# Altium schematic symbol library 三院科协AD封装库.SchLib: 95 symbols
Pins are listed as number, name and electrical type; pins without a type are passive.

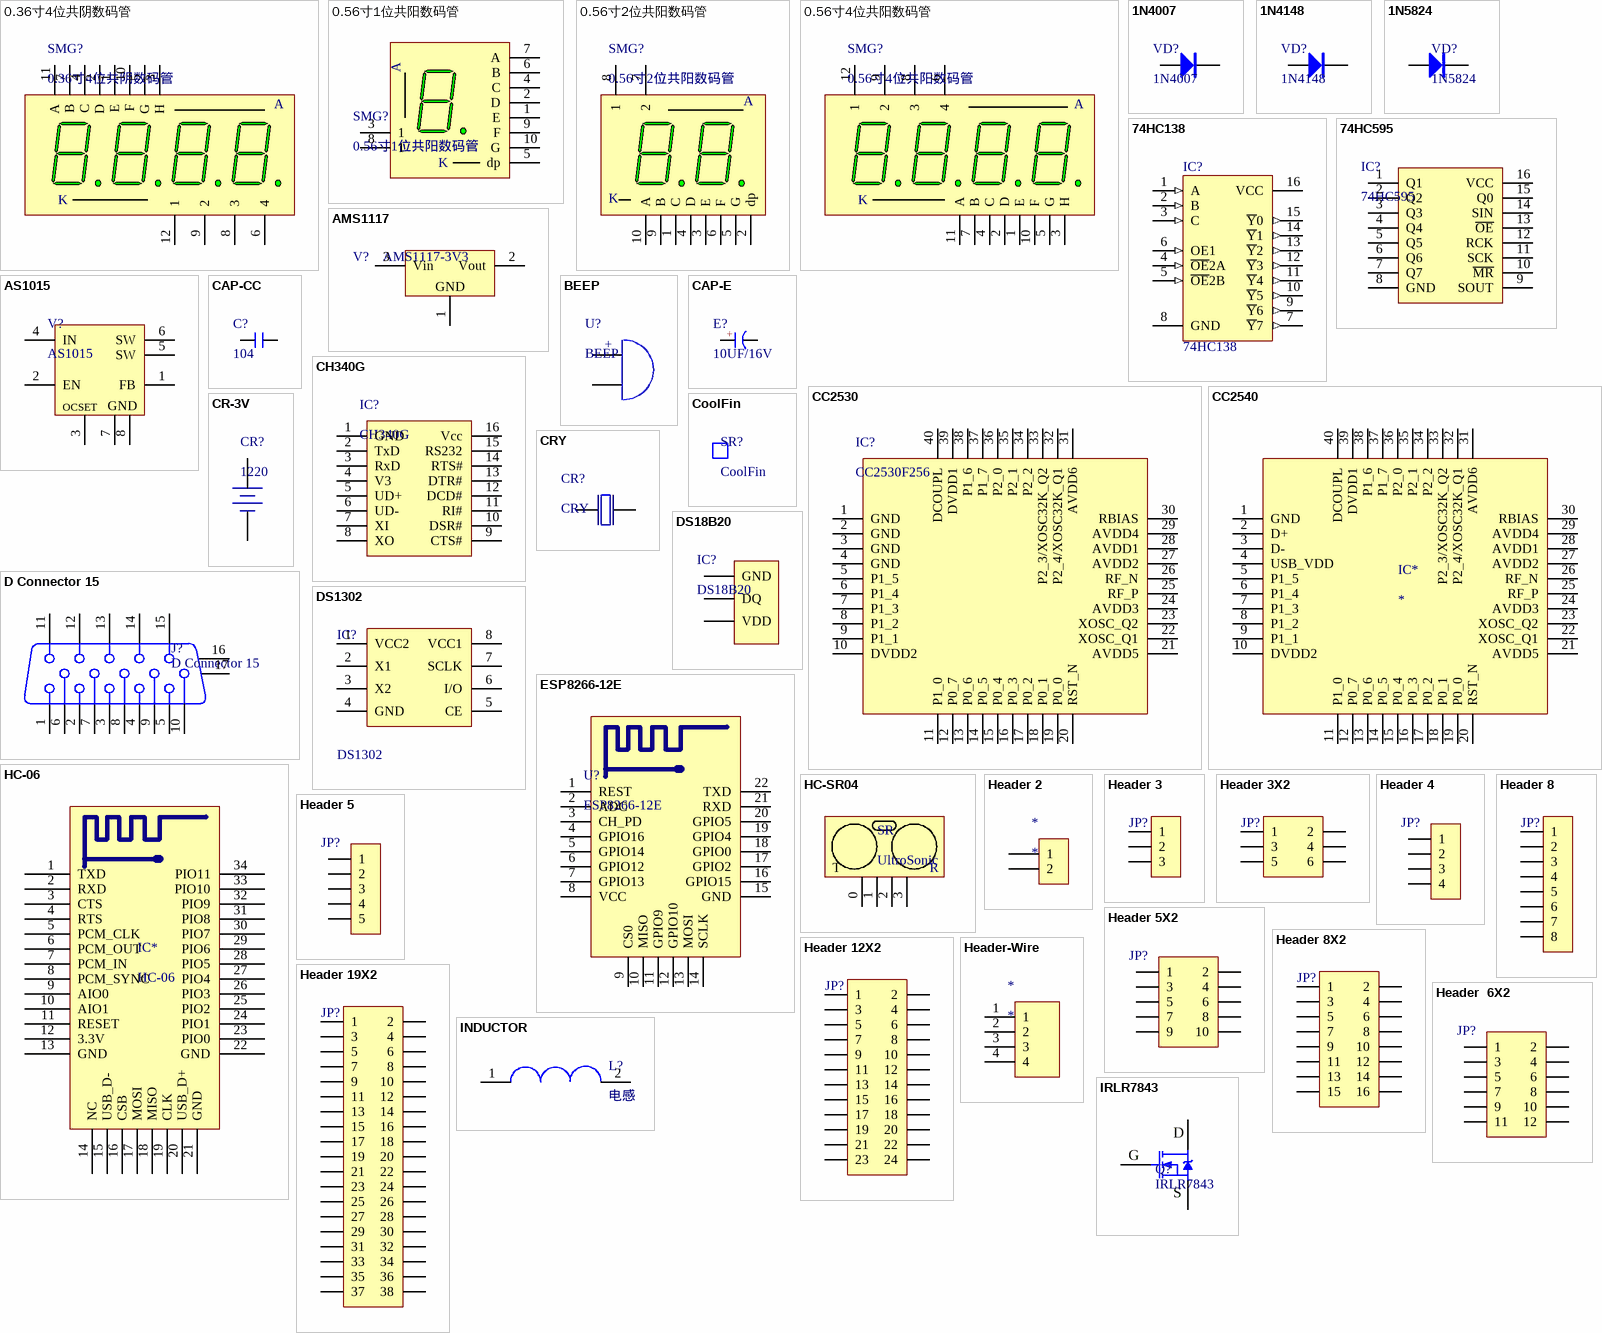
[diagram p0: symbols 0.36寸4位共阴数码管 to IRLR7843]

## 0.36寸4位共阴数码管
designator SMG?
3641A; 版权归属: 源创客; BOM名称: 0.36寸4位共阴; 学习资源: www.ooocke.com
footprint SMG 0.36-4P (30*14*7.2mm(长宽厚))
pins: 1 E "Anode", 2 D "Anode", 3 H "Anode", 4 C "Anode", 5 G "Anode", 6 4 "Cathode", 7 B "Anode", 8 3 "Anode", 9 2 "Anode", 10 F "Anode", 11 A "Anode", 12 1 "Cathode"
text: K

## 0.56寸1位共阳数码管
designator SMG?
5611B; 版权归属: 源创客; BOM名称: 0.56寸1位共阳; 学习资源: www.ooocke.com
footprint SMG 0.56-1P (12.7*19*8mm(长宽厚))
pins: 1 E "Anode", 2 D "Anode", 3 1 "Cathode", 4 C "Anode", 5 dp "Anode", 6 B "Anode", 7 A "Anode", 8 1 "Anode", 9 F "Anode", 10 G "Anode"
text: K

## 0.56寸2位共阳数码管
designator SMG?
5621B; 版权归属: 源创客; BOM名称: 0.56寸2位共阳; 学习资源: www.ooocke.com
footprint SMG 0.56-2P (25*19*8mm(长宽厚))
pins: 1 C "Anode", 2 dp "Anode", 3 E "Anode", 4 D "Anode", 5 G "Anode", 6 F "Anode", 7 2 "Anode", 8 1 "Cathode", 9 B "Anode", 10 A "Anode"
text: K

## 0.56寸4位共阳数码管
designator SMG?
5641B; 版权归属: 源创客; BOM名称: 0.56寸4位共阳; 学习资源: www.ooocke.com
footprint SMG 0.56-4P (4位0.56寸数码管，50.3*19mm)
pins: 1 E "Anode", 2 D "Anode", 3 H "Anode", 4 C "Anode", 5 G "Anode", 6 4 "Cathode", 7 B "Anode", 8 3 "Anode", 9 2 "Anode", 10 F "Anode", 11 A "Anode", 12 1 "Cathode"
text: K

## 1N4007
designator VD?
整流二极管; 版权归属: 源创客; BOM名称: 整流二极管; 学习资源: www.ooocke.com
footprint DO-41 (2.6*9.1mm(直径，脚距）)
pins: 1 A, 2 K

## 1N4148
designator VD?
高速开关二极管; 版权归属: 源创客; BOM名称: 高速开关二极管; 学习资源: www.ooocke.com
footprint DO-35 (1.8*6.8mm(直径，脚距）)
pins: 1 A, 2 K

## 1N5824
designator VD?
SS54 肖特基整流二极管
footprint SMA (4.5x2.6*2.2mm（长宽高，不包括引脚）)
pins: 1 A, 2 K

## 74HC138
designator IC?
138译码器; 版权归属: 源创客; 学习资源: www.ooocke.com; BOM名称: 138译码器
footprint DIP16-300 (19.3*7.6*3.8(长宽高）)
pins: 1 A (in), 2 B (in), 3 C (in), 4 ~{OE}2A (in), 5 ~{OE}2B (in), 6 OE1 (in), 7 ~{Y}7 (out), 8 GND (power), 9 ~{Y}6 (out), 10 ~{Y}5 (out), 11 ~{Y}4 (out), 12 ~{Y}3 (out), 13 ~{Y}2 (out), 14 ~{Y}1 (out), 15 ~{Y}0 (out), 16 VCC (power)

## 74HC595
designator IC?
8位移位寄存器; 版权归属: 源创客; BOM名称: 8位移位寄存器; 学习资源: www.ooocke.com
footprint DIP16-300 (19.3*7.6*3.8(长宽高）)
pins: 1 Q1, 2 Q2, 3 Q3, 4 Q4, 5 Q5, 6 Q6, 7 Q7, 8 GND, 9 SOUT, 10 ~{MR}, 11 SCK, 12 RCK, 13 ~{OE}, 14 SIN, 15 Q0, 16 VCC

## AMS1117
designator V?, comment AMS1117-3V3
三端稳压芯片; BOM名称: 稳压芯片; 版权归属: 源创客; 学习资源: www.ooocke.com
footprint SOT223_N (6.4x7x1.6mm(长宽高))
pins: 1 GND, 2 Vout, 3 Vin

## AS1015
designator V?
可调升压芯片; 版权归属: 源创客; BOM名称: 可调升压芯片; 学习资源: www.ooocke.com
footprint SOP8_N (5*6*1.8mm（长宽高）)
pins: 1 FB (power), 2 EN (power), 3 OCSET (power), 4 IN (power), 5 SW (power), 6 SW (power), 7 GND (power), 8 GND (power)

## BEEP
designator U?
蜂鸣器
footprint BEEP 7.6x12x9.5 (6.5*12*9.5mm(脚距,直径,高度))
pins: 1, 2
text: +

## CAP-CC
designator C?, comment 104
瓷片电容; BOM名称: 直插瓷片电容; 版权归属: 源创客; 学习资源: www.ooocke.com
footprint C 0805 (无极性贴片电容)
footprint CC 2.2*5 (脚距2.2mm直径5mm)
pins: 1, 2

## CAP-E
designator E?, comment 10UF/16V
电解电容; BOM名称: 直插电解电容; 版权归属: 源创客; 学习资源: www.ooocke.com
footprint CAP 3.5*8*11.5 - BK (脚距3.5mm直径8mm高度11.5mm)
pins: 1 A, 2 K
text: +

## CC2530
designator IC?, comment CC2530F256
ZigBee2.4G无线组网芯片; 版权归属: 源创客; BOM名称: ZigBee2.4G无线组网芯片; 学习资源: www.ooocke.com
footprint QFN40 6X6_L (40脚，体宽：6x6mm，脚距：0.5mm)
pins: 1 GND, 2 GND, 3 GND, 4 GND, 5 P1_5, 6 P1_4, 7 P1_3, 8 P1_2, 9 P1_1, 10 DVDD2, 11 P1_0, 12 P0_7, 13 P0_6, 14 P0_5, 15 P0_4, 16 P0_3, 17 P0_2, 18 P0_1, 19 P0_0, 20 RST_N, 21 AVDD5, 22 XOSC_Q1, 23 XOSC_Q2, 24 AVDD3, 25 RF_P, 26 RF_N, 27 AVDD2, 28 AVDD1, 29 AVDD4, 30 RBIAS, 31 AVDD6, 32 P2_4/XOSC32K_Q1, 33 P2_3/XOSC32K_Q2, 34 P2_2, 35 P2_1, 36 P2_0, 37 P1_7, 38 P1_6, 39 DVDD1, 40 DCOUPL

## CC2540
designator IC*
ZigBee2.4G无线组网芯片
footprint QFN40 6X6_L (40脚，体宽：6x6mm，脚距：0.5mm)
pins: 1 GND, 2 D+, 3 D-, 4 USB_VDD, 5 P1_5, 6 P1_4, 7 P1_3, 8 P1_2, 9 P1_1, 10 DVDD2, 11 P1_0, 12 P0_7, 13 P0_6, 14 P0_5, 15 P0_4, 16 P0_3, 17 P0_2, 18 P0_1, 19 P0_0, 20 RST_N, 21 AVDD5, 22 XOSC_Q1, 23 XOSC_Q2, 24 AVDD3, 25 RF_P, 26 RF_N, 27 AVDD2, 28 AVDD1, 29 AVDD4, 30 RBIAS, 31 AVDD6, 32 P2_4/XOSC32K_Q1, 33 P2_3/XOSC32K_Q2, 34 P2_2, 35 P2_1, 36 P2_0, 37 P1_7, 38 P1_6, 39 DVDD1, 40 DCOUPL

## CH340G
designator IC?
串口转USB; 版权归属: 源创客; BOM名称: 串口转USB; 学习资源: www.ooocke.com
footprint SOP16_N (10.3*6.2*1.8mm（长宽高）)
pins: 1 GND, 2 TxD, 3 RxD, 4 V3, 5 UD+, 6 UD-, 7 XI, 8 XO, 9 CTS#, 10 DSR#, 11 RI#, 12 DCD#, 13 DTR#, 14 RTS#, 15 RS232, 16 Vcc

## CoolFin
designator SR?
散热片; 版权归属: 源创客; BOM名称: 散热片; 学习资源: www.ooocke.com
footprint HD-2

## CR-3V
designator CR?, comment 1220
纽扣电池; BOM名称: 微型电池; 版权归属: 源创客; 学习资源: www.ooocke.com
footprint CR1220_B (纽扣电池座)
pins: DC+, DC-

## CRY
designator CR?
晶振
footprint XTAL-49S DIP
footprint XTAL-49S SMD
pins: 1, 2

## D Connector 15
designator J?
VGA通讯端口; 版权归属: 源创客; 学习资源: www.ooocke.com; BOM名称: VGA通讯端口
footprint VGA15B (15针通讯接口)
footprint VGA15A (15针通讯接口)
pins: 1, 2, 3, 4, 5, 6, 7, 8, 9, 10, 11, 12, 13, 14, 15, 16 MH2, 17 MH1

## DS18B20
designator IC?
数字温度计; 版权归属: 源创客; BOM名称: 数字温度计; 学习资源: www.ooocke.com
footprint TO92A (92晶体管)
pins: 1 GND, 2 DQ, 3 VDD

## DS1302
designator IC?
实时时钟芯片; 版权归属: 源创客; BOM名称: 实时时钟芯片; 学习资源: www.ooocke.com
footprint SOP8_N (5*6*1.8mm（长宽高）)
pins: 1 VCC2, 2 X1, 3 X2, 4 GND, 5 CE, 6 I/O, 7 SCLK, 8 VCC1

## ESP8266-12E
designator U?
串口 WIFI模块，ESP-12E; BOM名称: WIFI模块; 版权归属: 源创客; 学习资源: www.ooocke.com
footprint ESP_12E (ESP-12 Wi-Fi Module by AI-Thinker)
pins: 1 REST, 2 ADC, 3 CH_PD, 4 GPIO16, 5 GPIO14, 6 GPIO12, 7 GPIO13, 8 VCC, 9 CS0, 10 MISO, 11 GPIO9, 12 GPIO10, 13 MOSI, 14 SCLK, 15 GND, 16 GPIO15, 17 GPIO2, 18 GPIO0, 19 GPIO4, 20 GPIO5, 21 RXD, 22 TXD

## HC-06
designator IC*
蓝牙模块2.0
footprint HC-06 (无线蓝牙模块2.0)
pins: 1 TXD, 2 RXD, 3 CTS, 4 RTS, 5 PCM_CLK, 6 PCM_OUT, 7 PCM_IN, 8 PCM_SYNC, 9 AIO0, 10 AIO1, 11 RESET, 12 3.3V, 13 GND, 14 NC, 15 USB_D-, 16 CSB, 17 MOSI, 18 MISO, 19 CLK, 20 USB_D+, 21 GND, 22 GND, 23 PIO0, 24 PIO1, 25 PIO2, 26 PIO3, 27 PIO4, 28 PIO5, 29 PIO6, 30 PIO7, 31 PIO8, 32 PIO9, 33 PIO10, 34 PIO11

## HC-SR04
designator SR, comment UltroSonic
超声波测距模块
footprint HC-SR04 (超声波测距模块)
pins: 0 VCC, 1 Trig, 2 Echo, 3 GND
text: T; R

## Header 2
designator *
2P接插件
footprint HDR-1x2 (排针，2脚)
footprint HDR-1X2_M (排母，2脚)
pins: 1, 2

## Header 3
designator JP?, comment HDR-1X3  (value not drawn)
3P接插件; 版权归属: 源创客; BOM名称: 3P接插件; 学习资源: www.ooocke.com
footprint HDR-1X3 (排针，3脚)
footprint HDR-1X3_M (排母，3脚)
footprint HDR-1X3_Y (圆孔排母，3脚)
pins: 1, 2, 3

## Header 3X2
designator JP?, comment Header3X2  (value not drawn)
3*2P接插件; 版权归属: 源创客; BOM名称: 3*2P接插件; 学习资源: www.ooocke.com
footprint HDR-3X2 (双排排针，3x2脚)
pins: 1, 2, 3, 4, 5, 6

## Header 4
designator JP?, comment HDR-1X4  (value not drawn)
4P接插件; 版权归属: 源创客; BOM名称: 4P接插件; 学习资源: www.ooocke.com
footprint HDR-1X4_M (排母，4脚)
pins: 1, 2, 3, 4

## Header 5
designator JP?, comment HDR-1X5  (value not drawn)
5P接插件; 版权归属: 源创客; BOM名称: 5P接插件; 学习资源: www.ooocke.com
footprint HDR-1X5 (排针，5脚)
footprint HDR-1X5 - duplicate (排针，5脚)
footprint HDR-1X5_M (排母，5脚)
pins: 1, 2, 3, 4, 5

## Header 5X2
designator JP?  (value not drawn)
5*2P接插件; 版权归属: 源创客; BOM名称: 5*2P接插件; 学习资源: www.ooocke.com
footprint HDR-5X2 (双排排针，5x2脚)
pins: 1, 2, 3, 4, 5, 6, 7, 8, 9, 10

## Header 8
designator JP?, comment HDR-1X8  (value not drawn)
8P接插件; 版权归属: 源创客; BOM名称: 8P接插件; 学习资源: www.ooocke.com
footprint HDR-1X8 (排针，8脚)
footprint HDR-1X8_M (排母，8脚)
footprint HDR-1X8_Y (圆孔排母，8脚)
pins: 1, 2, 3, 4, 5, 6, 7, 8

## Header 8X2
designator JP?  (value not drawn)
8*2P接插件; 版权归属: 源创客; BOM名称: 8*2P接插件; 学习资源: www.ooocke.com
footprint HDR-8X2 (双排排针，8x2脚)
pins: 1, 2, 3, 4, 5, 6, 7, 8, 9, 10, 11, 12, 13, 14, 15, 16

## Header 12X2
designator JP?, comment Header 2X11  (value not drawn)
12*2P接插件; 版权归属: 源创客; BOM名称: 12*2P接插件; 学习资源: www.ooocke.com
footprint HDR-12X2 (双排排针，12x2脚)
pins: 1, 2, 3, 4, 5, 6, 7, 8, 9, 10, 11, 12, 13, 14, 15, 16, 17, 18, 19, 20, 21, 22, 23, 24

## Header 19X2
designator JP?, comment Header 2X11  (value not drawn)
19*2P接插件; 版权归属: 源创客; BOM名称: 19*2P接插件; 学习资源: www.ooocke.com
footprint HDR-19X2 (双排排针，19x2脚)
pins: 1, 2, 3, 4, 5, 6, 7, 8, 9, 10, 11, 12, 13, 14, 15, 16, 17, 18, 19, 20, 21, 22, 23, 24, 25, 26, 27, 28, 29, 30, 31, 32, 33, 34, 35, 36, 37, 38

## Header  6X2
designator JP?, comment Header 6X2  (value not drawn)
6*2P接插件; 版权归属: 源创客; BOM名称: 6*2P接插件; 学习资源: www.ooocke.com
footprint HDR-6X2 (双排排针，6x2脚)
pins: 1, 2, 3, 4, 5, 6, 7, 8, 9, 10, 11, 12

## Header-Wire
designator *
排线接口*4
footprint PH2.0-4P (接插件/1A)
pins: 1, 2, 3, 4

## INDUCTOR
designator L?, comment 电感
footprint CDRH73 (7.3*7.3*3.4mm（长宽高）)
pins: 1, 2

## IRLR7843
designator Q?
N沟场效应管; 版权归属: 源创客; BOM名称: N沟场效应管; 学习资源: www.ooocke.com
footprint TO252 (252晶体管)
pins: 1 G, 2 D, 3 S

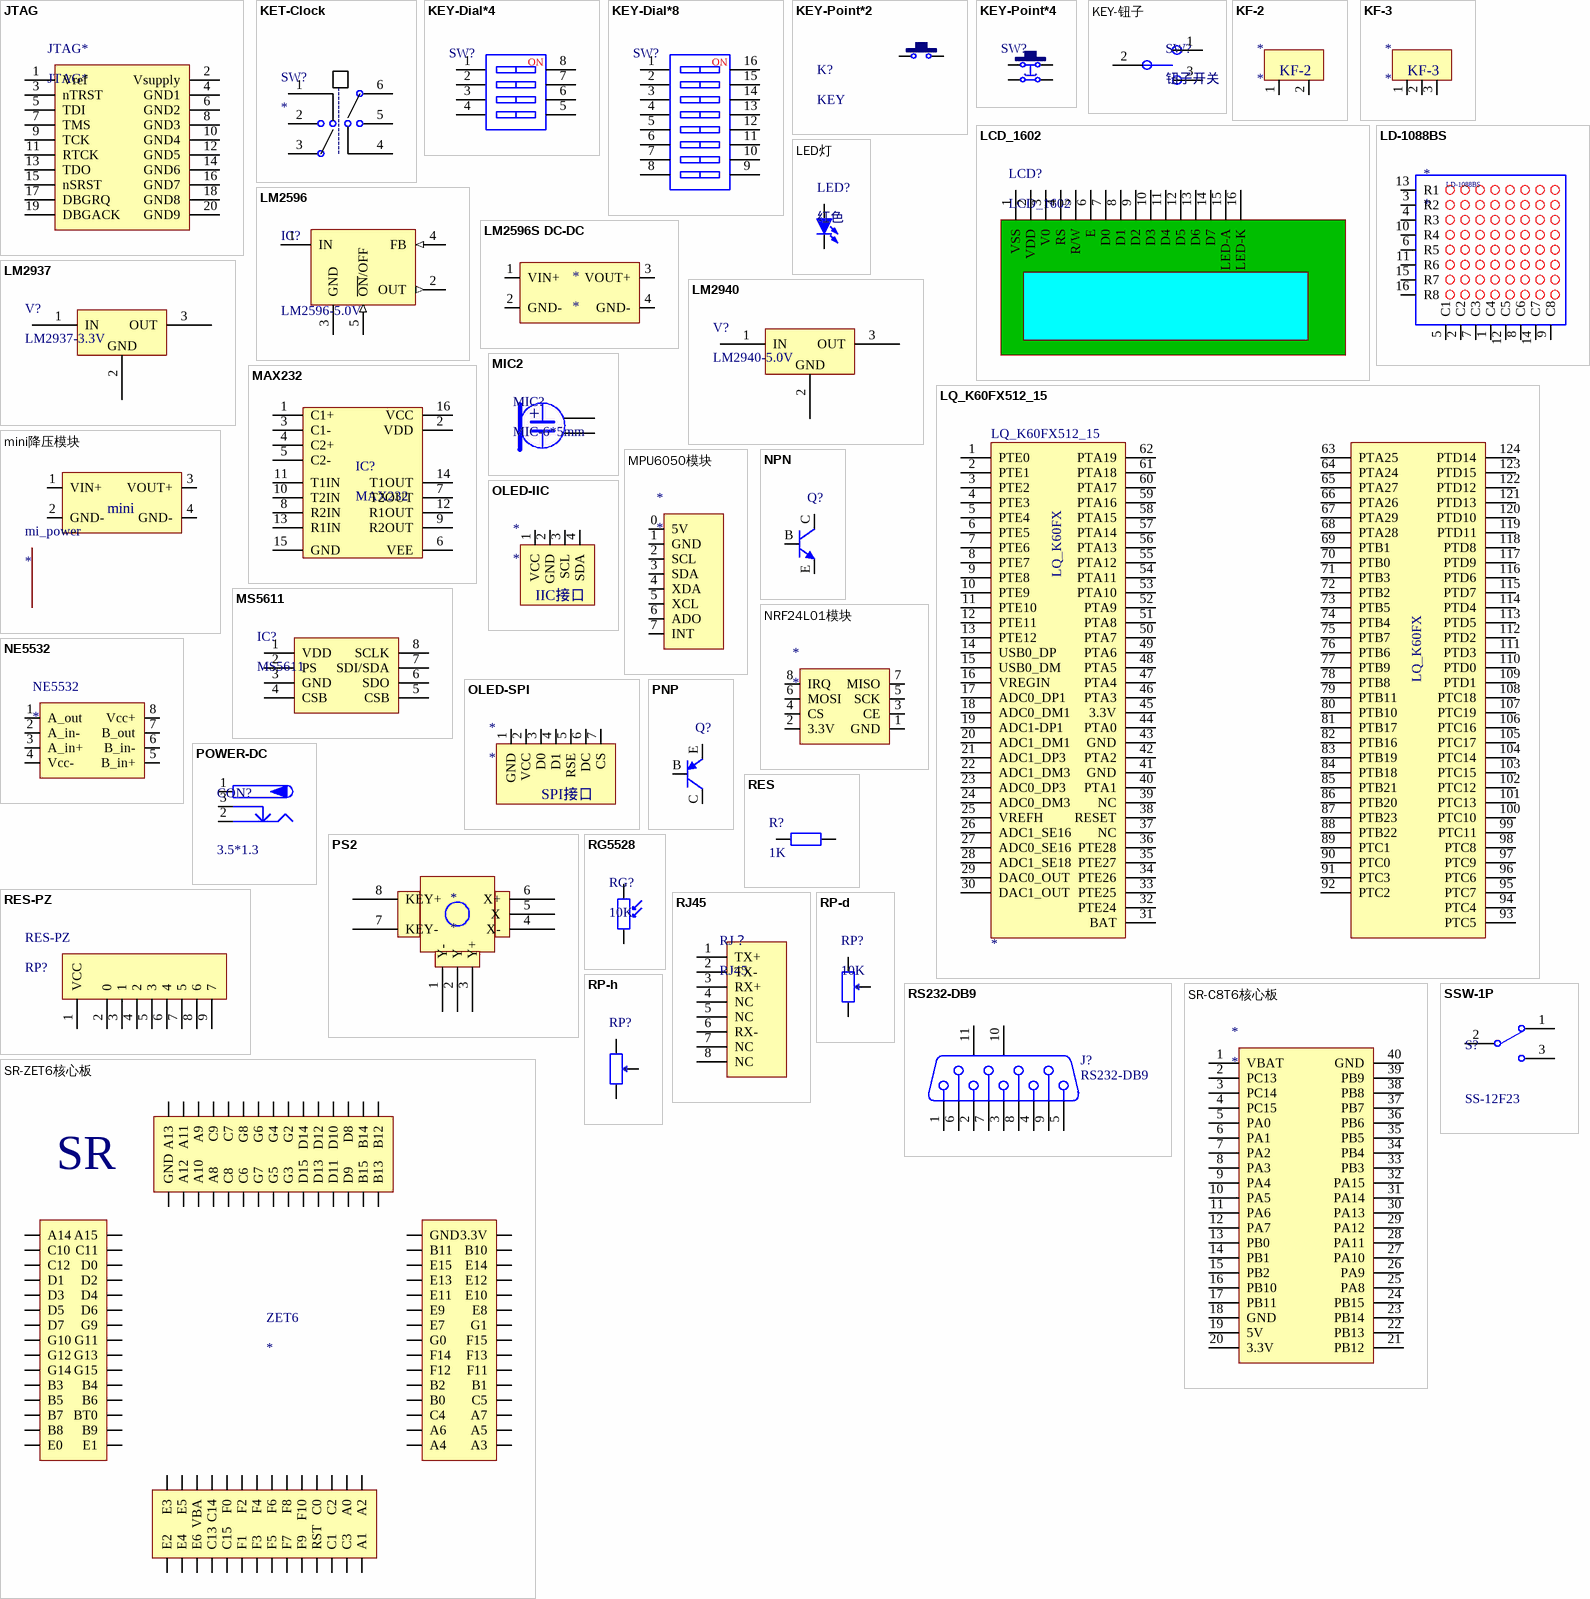
[diagram p1: symbols JTAG to SSW-1P]

## JTAG
designator JTAG*, comment JTAG*
J-LINK接口
footprint IDC2.54-20P (20P简易牛角座)
pins: 1 Vref, 2 Vsupply, 3 nTRST, 4 GND1, 5 TDI, 6 GND2, 7 TMS, 8 GND3, 9 TCK, 10 GND4, 11 RTCK, 12 GND5, 13 TDO, 14 GND6, 15 nSRST, 16 GND7, 17 DBGRQ, 18 GND8, 19 DBGACK, 20 GND9

## KET-Clock
designator SW?
自锁开关; BOM名称: 8*8开关; 版权归属: 源创客; 学习资源: www.ooocke.com
footprint KFT DIP-8X8 (8*8mm开关)
pins: 1, 2, 3, 4, 5, 6
text: ---------------

## KEY-Dial*4
designator SW?  (value not drawn)
4位拨码开关; BOM名称: 4路编码开关; 版权归属: 源创客; 学习资源: www.ooocke.com
footprint CSW DIP-4P (11.7*9.9*7mm)
pins: 1, 2, 3, 4, 5, 6, 7, 8
text: NO

## KEY-Dial*8
designator SW?  (value not drawn)
8位拨码开关; BOM名称: 8路编码开关; 版权归属: 源创客; 学习资源: www.ooocke.com
footprint CSW DIP-8P (21.9*9.9*7mm)
pins: 1, 2, 3, 4, 5, 6, 7, 8, 9, 10, 11, 12, 13, 14, 15, 16
text: NO

## KEY-Point*2
designator K?, comment KEY
2脚按键
footprint TSW SMD-3*6*2.5 (3*6*2.5mm)
footprint TSW SMD-3*6*5 (3*6*5mm)
pins: 1, 2

## KEY-Point*4
designator SW?, comment 6x6x5  (value not drawn)
4脚按键; BOM名称: 直插6x6轻触开关; 版权归属: 源创客; 学习资源: www.ooocke.com
footprint TSW DIP-6*6*5 (6*6*5mm)
pins: 1, 2, 3, 4

## KEY-钮子
designator SW?, comment 钮子开关
footprint SS-SW
pins: 1, 2, 3

## KF-2
designator *
2脚端子
footprint KF301-2P (可拼接端子/6A)
pins: 1, 2

## KF-3
designator *
3脚端子
footprint KF301-3P (可拼接端子/6A)
pins: 1, 2, 3

## LCD_1602
designator LCD?
LCD_1602显示模块; 版权归属: 源创客; BOM名称: LCD 1602; 学习资源: www.ooocke.com
footprint LCD-1602 (LCD module 16*2 char)
pins: 1 VSS, 2 VDD, 3 V0, 4 RS, 5 R/W, 6 E, 7 D0, 8 D1, 9 D2, 10 D3, 11 D4, 12 D5, 13 D6, 14 D7, 15 LED-A, 16 LED-K

## LD-1088BS
designator *
8*8点阵
footprint LED RG-8*8A (双色8*8点阵,32*32mm)
pins: 1 C4, 2 C2, 3 R2, 4 R3, 5 C1, 6 R5, 7 C3, 8 C6, 9 C8, 10 R4, 11 R6, 12 C5, 13 R1, 14 C7, 15 R7, 16 R8

## LED灯
designator LED?, comment 红色
插件LED; 版权归属: 源创客; BOM名称: 插件LED; 学习资源: www.ooocke.com
footprint LED-3mm
footprint LED-5mm
footprint 0805LED1
pins: 1 A, 2 K

## LM2596
designator IC?, comment LM2596-5.0V
DC降压芯片; BOM名称: DC稳压芯片; 版权归属: 源创客; 学习资源: www.ooocke.com
footprint TO220-5A (220，5脚晶体管)
footprint TO220-5B (220，5脚晶体管)
footprint TO220-5C (220，5脚晶体管)
pins: 1 IN (power), 2 OUT (out), 3 GND (power), 4 FB (in), 5 ~{ON}/OFF (in)

## LM2596S DC-DC
designator *
可调降压模块
footprint DC-DOWN-2
pins: 1 VIN+, 2 GND-, 3 VOUT+, 4 GND-

## LM2937
designator V?, comment LM2937-3.3V
3.3V稳压芯片; BOM名称: 5V稳压芯片; 版权归属: 源创客; 学习资源: www.ooocke.com
footprint TO263-3A (263，3脚晶体管)
pins: 1 IN (power), 2 GND (power), 3 OUT (power)

## LM2940
designator V?, comment LM2940-5.0V
5V稳压芯片; 版权归属: 源创客; BOM名称: 5V稳压芯片; 学习资源: www.ooocke.com
footprint TO263-3A (263，3脚晶体管)
pins: 1 IN (power), 2 GND (power), 3 OUT (power)

## LQ_K60FX512_15
designator LQ_K60FX512_15
龙邱K60
footprint LQ_KXXP144-SYSVG
pins: 1 PTE0, 2 PTE1, 3 PTE2, 4 PTE3, 5 PTE4, 6 PTE5, 7 PTE6, 8 PTE7, 9 PTE8, 10 PTE9, 11 PTE10, 12 PTE11, 13 PTE12, 14 USB0_DP, 15 USB0_DM, 16 VREGIN, 17 ADC0_DP1, 18 ADC0_DM1, 19 ADC1-DP1, 20 ADC1_DM1, 21 ADC1_DP3, 22 ADC1_DM3, 23 ADC0_DP3, 24 ADC0_DM3, 25 VREFH, 26 ADC1_SE16, 27 ADC0_SE16, 28 ADC1_SE18, 29 DAC0_OUT, 30 DAC1_OUT, 31 BAT, 32 PTE24, 33 PTE25, 34 PTE26, 35 PTE27, 36 PTE28, 37 NC, 38 RESET, 39 NC, 40 PTA1, 41 GND, 42 PTA2, 43 GND, 44 PTA0, 45 3.3V, 46 PTA3, 47 PTA4, 48 PTA5, 49 PTA6, 50 PTA7, 51 PTA8, 52 PTA9, 53 PTA10, 54 PTA11, 55 PTA12, 56 PTA13, 57 PTA14, 58 PTA15, 59 PTA16, 60 PTA17, 61 PTA18, 62 PTA19, 63 PTA25, 64 PTA24, 65 PTA27, 66 PTA26, 67 PTA29, 68 PTA28, 69 PTB1, 70 PTB0, 71 PTB3, 72 PTB2, 73 PTB5, 74 PTB4, 75 PTB7, 76 PTB6, 77 PTB9, 78 PTB8, 79 PTB11, 80 PTB10, 81 PTB17, 82 PTB16, 83 PTB19, 84 PTB18, 85 PTB21, 86 PTB20, 87 PTB23, 88 PTB22, 89 PTC1, 90 PTC0, 91 PTC3, 92 PTC2, 93 PTC5, 94 PTC4, 95 PTC7, 96 PTC6, 97 PTC9, 98 PTC8, 99 PTC11, 100 PTC10, 101 PTC13, 102 PTC12, 103 PTC15, 104 PTC14, 105 PTC17, 106 PTC16, 107 PTC19, 108 PTC18, 109 PTD1, 110 PTD0, 111 PTD3, 112 PTD2, 113 PTD5, 114 PTD4, 115 PTD7, 116 PTD6, 117 PTD9, 118 PTD8, 119 PTD11, 120 PTD10, 121 PTD13, 122 PTD12, 123 PTD15, 124 PTD14
text: LQ_K60FX

## MAX232
designator IC?
版权归属: 源创客; BOM名称: MAX232; 学习资源: www.ooocke.com
footprint DIP16-300 (19.3*7.6*3.8(长宽高）)
footprint SOP16_L (10.3*6.2*1.8mm（长宽高）)
footprint SOP16_N (10.3*6.2*1.8mm（长宽高）)
footprint SOP16_M (10.3*6.2*1.8mm（长宽高）)
footprint DIP16-300 (19.3*7.6*3.8(长宽高）)
footprint DIP16-300_MH (带底座 19.3*7.6*3.8(长宽高）)
pins: 1 C1+, 2 VDD, 3 C1-, 4 C2+, 5 C2-, 6 VEE, 7 T2OUT, 8 R2IN, 9 R2OUT, 10 T2IN, 11 T1IN, 12 R1OUT, 13 R1IN, 14 T1OUT, 15 GND, 16 VCC

## MIC2
designator MIC?, comment MIC-6*5mm
麦克风; BOM名称: 电容麦克风; 版权归属: 源创客; 学习资源: www.ooocke.com
footprint MIC-6*5.5mm (咪咪头)
pins: 1, 2
text: +

## mini降压模块
designator mi_power
AMS1117-3.3降压
footprint DC-down
pins: 1 VIN+, 2 GND-, 3 VOUT+, 4 GND-
text: mini

## MPU6050模块
designator *
GY-521陀螺仪
footprint mpu6050
pins: 0 5V, 1 GND, 2 SCL, 3 SDA, 4 XDA, 5 XCL, 6 ADO, 7 INT

## MS5611
designator IC?
气压传感器; 版权归属: 源创客; BOM名称: 气压传感器; 学习资源: www.ooocke.com
footprint MS5611 (气压传感芯片)
pins: 1 VDD, 2 PS, 3 GND, 4 CSB, 5 CSB, 6 SDO, 7 SDI/SDA, 8 SCLK

## NE5532
designator NE5532
NE5532
footprint DIP8-300 (9.4*7.6*3.8(长宽高）)
pins: 1 A_out, 2 A_in-, 3 A_in+, 4 Vcc-, 5 B_in+, 6 B_in-, 7 B_out, 8 Vcc+

## NPN
designator Q?
三极管NPN型; BOM名称: 互补功率-NPN型; 版权归属: 源创客; 属性: 80V 8A 50W; 学习资源: www.ooocke.com
footprint TO92A (92晶体管)
footprint SOT23-3N (3x1.3x1mm(长宽高))
pins: B, C, E

## NRF24L01模块
designator *
2.4G通信模块
footprint NRF24L01
pins: 1 GND, 2 3.3V, 3 CE, 4 CS, 5 SCK, 6 MOSI, 7 MISO, 8 IRQ

## OLED-IIC
designator *
IIC接口
footprint OLED-IIC
pins: 1 VCC, 2 GND, 3 SCL, 4 SDA

## OLED-SPI
designator *
SPI接口
footprint OLED-SPI
pins: 1 GND, 2 VCC, 3 D0, 4 D1, 5 RSE, 6 DC, 7 CS

## PNP
designator Q?
三极管PNP型; BOM名称: 互补功率-PNP型; 版权归属: 源创客; 属性: 80V 8A 50W; 学习资源: www.ooocke.com
footprint TO92A (92晶体管)
footprint SOT23-3N (3x1.3x1mm(长宽高))
pins: B, C, E

## POWER-DC
designator CON?, comment 3.5*1.3
低压电源接口; BOM名称: DC电源接口; 版权归属: 源创客; 学习资源: www.ooocke.com
footprint DC-005 (5.5*2.1mm，DC30V,2.5A)
pins: 1 (power), 2 (power), 3 (power)

## PS2
designator *
遥感 B10K/103-267
footprint B10K/103-267 (摇杆电位器带按键)
pins: 1 Y-, 2 Y, 3 Y+, 4 X-, 5 X, 6 X+, 7 KEY-, 8 KEY+

## RES
designator R?, comment 1K
电阻; BOM名称: 贴片电阻; 版权归属: 源创客; 学习资源: www.ooocke.com
footprint R 0805 (1/8W贴片电阻)
pins: 1, 2

## RES-PZ
designator RES-PZ, comment RP?
排阻
footprint HDR-1X9_Y (圆孔排母，9脚)
footprint HDR-1X9_M (排母，9脚)
pins: 1 VCC, 2 0, 3 1, 4 2, 5 3, 6 4, 7 5, 8 6, 9 7

## RG5528
designator RG?, comment 10K
光敏电阻; 版权归属: 源创客; BOM名称: 光敏电阻; 学习资源: www.ooocke.com
footprint RG5528 (光敏电阻 脚距：3mm)
pins: 1, 2

## RJ45
designator RJ？
以太网接口; 版权归属: 源创客; BOM名称: 以太网接口; 学习资源: www.ooocke.com
footprint RJ45-2 (网线接口)
pins: 1 TX+, 2 TX-, 3 RX+, 4 NC, 5 NC, 6 RX-, 7 NC, 8 NC

## RP-d
designator RP?, comment 10K
电位器; BOM名称: 插件电位器; 版权归属: 源创客; 学习资源: www.ooocke.com
footprint 3296W (Precise Multi-Winding Adjustable Resistor)
footprint RM065 (蓝白可调电位器)
pins: 1, 2, ADJ

## RP-h
designator RP?
滑动变阻器; BOM名称: 插件电位器; 版权归属: 源创客; 学习资源: www.ooocke.com
footprint 滑动变阻器
pins: 1, 2 ADJ, 3

## RS232-DB9
designator J?
9针串口; 版权归属: 源创客; BOM名称: 9针串口; 学习资源: www.ooocke.com
footprint DB9/P_A (9针公头串口,31*18.5*12.5mm)
footprint DB9/S_A (9针母头串口,31*18.5*12.5mm)
pins: 1, 2, 3, 4, 5, 6, 7, 8, 9, 10 MH1, 11 MH2

## SR-C8T6核心板
designator *
C8T6核心板
footprint STM32F103C8T6-4
pins: 1 VBAT, 2 PC13, 3 PC14, 4 PC15, 5 PA0, 6 PA1, 7 PA2, 8 PA3, 9 PA4, 10 PA5, 11 PA6, 12 PA7, 13 PB0, 14 PB1, 15 PB2, 16 PB10, 17 PB11, 18 GND, 19 5V, 20 3.3V, 21 PB12, 22 PB13, 23 PB14, 24 PB15, 25 PA8, 26 PA9, 27 PA10, 28 PA11, 29 PA12, 30 PA13, 31 PA14, 32 PA15, 33 PB3, 34 PB4, 35 PB5, 36 PB6, 37 PB7, 38 PB8, 39 PB9, 40 GND

## SR-ZET6核心板
designator ZET6
ZET6核心板
footprint zet6
pins: 0 B12, 1 B13, 2 B14, 3 B15, 4 D8, 5 D9, 6 D10, 7 D11, 8 D12, 9 D13, 10 D14, 11 D15, 12 G2, 13 G3, 14 G4, 15 G5, 16 G6, 17 G7, 18 G8, 19 C6, 20 C7, 21 C8, 22 C9, 23 A8, 24 A9, 25 A10, 26 A11, 27 A12, 28 A13, 29 GND, 30 A14, 31 A15, 32 C10, 33 C11, 34 C12, 35 D0, 36 D1, 37 D2, 38 D3, 39 D4, 40 D5, 41 D6, 42 D7, 43 G9, 44 G10, 45 G11, 46 G12, 47 G13, 48 G14, 49 G15, 50 B3, 51 B4, 52 B5, 53 B6, 54 B7, 55 BT0, 56 B8, 57 B9, 58 E0, 59 E1, 60 E2, 61 E3, 62 E4, 63 E5, 64 E6, 65 VBA, 66 C13, 67 C14, 68 C15, 69 F0, 70 F1, 71 F2, 72 F3, 73 F4, 74 F5, 75 F6, 76 F7, 77 F8, 78 F9, 79 F10, 80 RST, 81 C0, 82 C1, 83 C2, 84 C3, 85 A0, 86 A1, 87 A2, 88 A3, 89 A4, 90 A5, 91 A6, 92 A7, 93 C4, 94 C5, 95 B0, 96 B1, 97 B2, 98 F11, 99 F12, 100 F13, 101 F14, 102 F15, 103 G0, 104 G1, 105 E7, 106 E8, 107 E9, 108 E10, 109 E11, 110 E12, 111 E13, 112 E14, 113 E15, 114 B10, 115 B11, 116 3.3V, 117 GND
text: SR

## SSW-1P
designator S?, comment SS-12F23
1路波动开关; BOM名称: 波动开关; 版权归属: 源创客; 学习资源: www.ooocke.com
footprint SS-12D10 (脚距3mm)
pins: 1, 2, 3

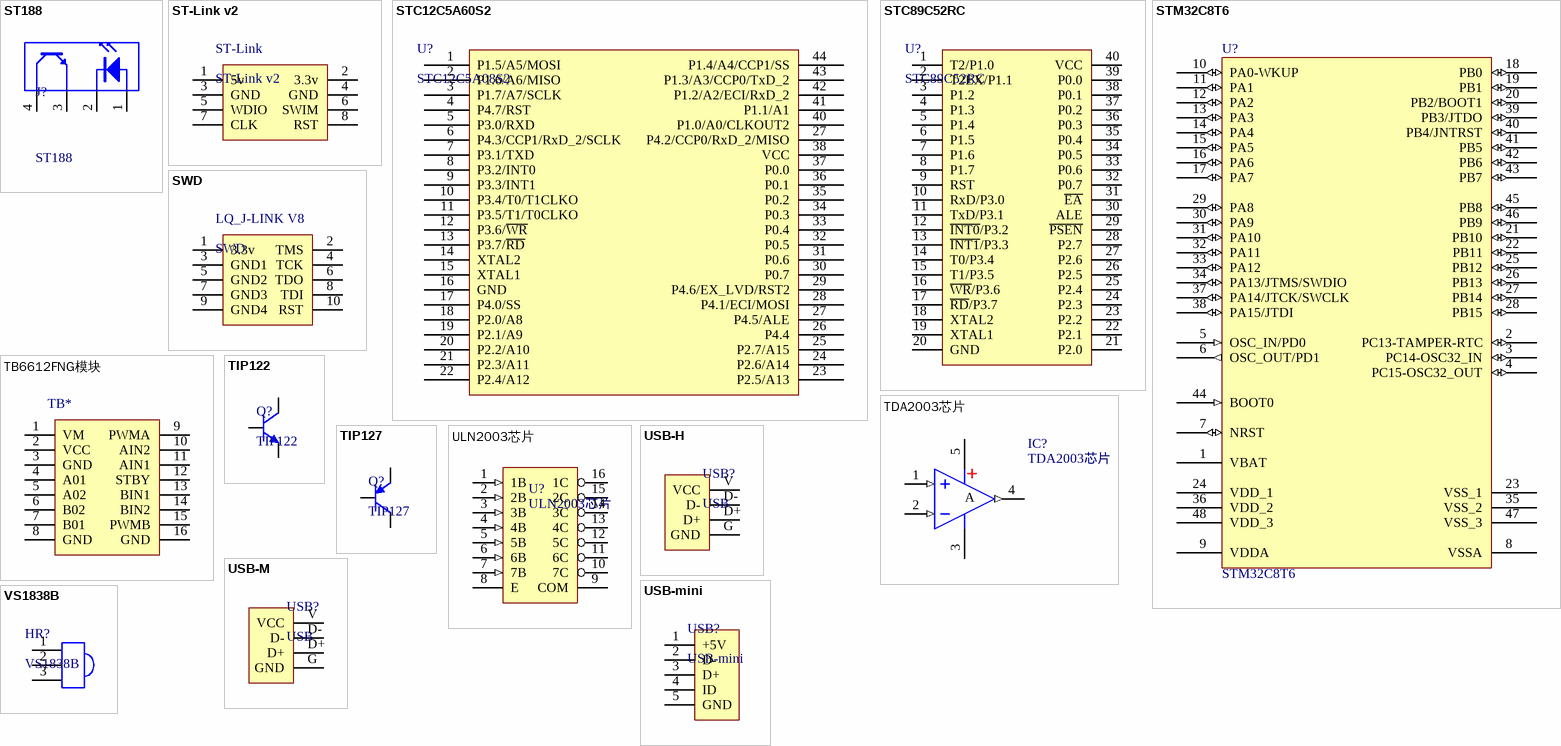
[diagram p2: symbols ST188 to VS1838B]

## ST188
designator J?
反射型光耦; 版权归属: 源创客; BOM名称: 反射型光耦; 学习资源: www.ooocke.com
footprint ST188 (反射型光耦)
pins: 1 A "Anode", 2 K "Cathode", 3 E "Emitter", 4 C "Collector"

## ST-Link v2
designator ST-Link
footprint HDR-4X2 (双排排针，4x2脚)
pins: 1 5v, 2 3.3v, 3 GND, 4 GND, 5 WDIO, 6 SWIM, 7 CLK, 8 RST

## STC12C5A60S2
designator U?, comment STC12C5A08S2
STC单片机; 版权归属: 源创客; BOM名称: STC单片机; 学习资源: www.ooocke.com
footprint LQFP44 10X10_N (44脚，体宽10x10mm，脚距0.8mm)
footprint DIP40-600 (52*15.2*4mm(长宽高))
footprint DIP40-600_MH (带底座 52*15.2*4mm(长宽高))
pins: 1 P1.5/A5/MOSI, 2 P1.6/A6/MISO, 3 P1.7/A7/SCLK, 4 P4.7/RST, 5 P3.0/RXD, 6 P4.3/CCP1/RxD_2/SCLK, 7 P3.1/TXD, 8 P3.2/INT0, 9 P3.3/INT1, 10 P3.4/T0/T1CLKO, 11 P3.5/T1/T0CLKO, 12 P3.6/~{WR}, 13 P3.7/~{RD}, 14 XTAL2, 15 XTAL1, 16 GND, 17 P4.0/SS, 18 P2.0/A8, 19 P2.1/A9, 20 P2.2/A10, 21 P2.3/A11, 22 P2.4/A12, 23 P2.5/A13, 24 P2.6/A14, 25 P2.7/A15, 26 P4.4, 27 P4.2/CCP0/RxD_2/MISO, 27 P4.5/ALE, 28 P4.1/ECI/MOSI, 29 P4.6/EX_LVD/RST2, 30 P0.7, 31 P0.6, 32 P0.5, 33 P0.4, 34 P0.3, 35 P0.2, 36 P0.1, 37 P0.0, 38 VCC, 40 P1.0/A0/CLKOUT2, 41 P1.1/A1, 42 P1.2/A2/ECI/RxD_2, 43 P1.3/A3/CCP0/TxD_2, 44 P1.4/A4/CCP1/SS

## STC89C52RC
designator U?
STC单片机; 版权归属: 源创客; BOM名称: STC单片机; 学习资源: www.ooocke.com
footprint DIP40-600 (52*15.2*4mm(长宽高))
footprint DIP40-600_MH (带底座 52*15.2*4mm(长宽高))
pins: 1 T2/P1.0, 2 T2EX/P1.1, 3 P1.2, 4 P1.3, 5 P1.4, 6 P1.5, 7 P1.6, 8 P1.7, 9 RST, 10 RxD/P3.0, 11 TxD/P3.1, 12 ~{INT0}/P3.2, 13 ~{INT1}/P3.3, 14 T0/P3.4, 15 T1/P3.5, 16 ~{WR}/P3.6, 17 ~{RD}/P3.7, 18 XTAL2, 19 XTAL1, 20 GND, 21 P2.0, 22 P2.1, 23 P2.2, 24 P2.3, 25 P2.4, 26 P2.5, 27 P2.6, 28 P2.7, 29 ~{PSEN}, 30 ALE, 31 ~{EA}, 32 P0.7, 33 P0.6, 34 P0.5, 35 P0.4, 36 P0.3, 37 P0.2, 38 P0.1, 39 P0.0, 40 VCC

## STM32C8T6
designator U?
C8T6芯片; BOM名称: 32位STM单片机; 版权归属: 源创客; 学习资源: www.ooocke.com
footprint LQFP48 7X7_N (48脚，体宽7x7mm，脚距0.5mm)
pins: 1 VBAT (power), 2 PC13-TAMPER-RTC (io), 3 PC14-OSC32_IN (io), 4 PC15-OSC32_OUT (io), 5 OSC_IN/PD0 (in), 6 OSC_OUT/PD1 (out), 7 NRST (io), 8 VSSA (power), 9 VDDA (power), 10 PA0-WKUP (io), 11 PA1 (io), 12 PA2 (io), 13 PA3 (io), 14 PA4 (io), 15 PA5 (io), 16 PA6 (io), 17 PA7 (io), 18 PB0 (io), 19 PB1 (io), 20 PB2/BOOT1 (io), 21 PB10 (io), 22 PB11 (io), 23 VSS_1 (power), 24 VDD_1 (power), 25 PB12 (io), 26 PB13 (io), 27 PB14 (io), 28 PB15 (io), 29 PA8 (io), 30 PA9 (io), 31 PA10 (io), 32 PA11 (io), 33 PA12 (io), 34 PA13/JTMS/SWDIO (io), 35 VSS_2 (power), 36 VDD_2 (power), 37 PA14/JTCK/SWCLK (io), 38 PA15/JTDI (io), 39 PB3/JTDO (io), 40 PB4/JNTRST (io), 41 PB5 (io), 42 PB6 (io), 43 PB7 (io), 44 BOOT0 (in), 45 PB8 (io), 46 PB9 (io), 47 VSS_3 (power), 48 VDD_3 (power)

## SWD
designator LQ_J-LINK V8
LQ J-LINK V8
footprint IDC2.54-10P (10P简易牛角座)
pins: 1 3.3v, 2 TMS, 3 GND1, 4 TCK, 5 GND2, 6 TDO, 7 GND3, 8 TDI, 9 GND4, 10 RST

## TB6612FNG模块
designator TB*
带编码器电机驱动
footprint TB6612FNG
pins: 1 VM, 2 VCC, 3 GND, 4 A01, 5 A02, 6 B02, 7 B01, 8 GND, 9 PWMA, 10 AIN2, 11 AIN1, 12 STBY, 13 BIN1, 14 BIN2, 15 PWMB, 16 GND

## TDA2003芯片
designator IC?
单路音频功放; 版权归属: 源创客; BOM名称: 单路音频功放; 学习资源: www.ooocke.com
footprint DIP8-300 (9.4*7.6*3.8(长宽高）)
pins: 1 IN+ (in), 2 IN- (in), 3 V- (power), 4 OUT (out), 5 V+ (power)
text: A

## TIP122
designator Q?
NPN功率晶体管; 放大倍数: 30-75
footprint TO220A (220，3脚晶体管)
pins: 1 B, 2 C, 3 E

## TIP127
designator Q?
PNP功率晶体管
footprint TO220A (220，3脚晶体管)
pins: 1 B, 2 C, 3 E

## ULN2003芯片
designator U?
达林顿驱动芯片; 版权归属: 源创客; BOM名称: 达林顿驱动芯片; 学习资源: www.ooocke.com
footprint DIP16-300 (19.3*7.6*3.8(长宽高）)
footprint SOP16_N (10.3*6.2*1.8mm（长宽高）)
footprint DIP16-300_MH (带底座 19.3*7.6*3.8(长宽高）)
pins: 1 1B (in), 2 2B (in), 3 3B (in), 4 4B (in), 5 5B (in), 6 6B (in), 7 7B (in), 8 E, 9 COM, 10 7C (oc), 11 6C (oc), 12 5C (oc), 13 4C (oc), 14 3C (oc), 15 2C (oc), 16 1C (oc)

## USB-H
designator USB?, comment USB
USB公头; BOM名称: USB-A型公接口; 版权归属: 源创客; 学习资源: www.ooocke.com
footprint USB_A/P_A (A型USB 插头，20*13*4.5mm)
footprint USB_A/P_B (A型USB 插头，20*13*4.5mm)
pins: D+, D-, G GND, V VCC

## USB-M
designator USB?, comment USB
USB母头; BOM名称: USB-A型公接口; 版权归属: 源创客; 学习资源: www.ooocke.com
footprint USB-A/S_A (A型直插母头，)
footprint USB-A/S_C (A型贴片母头，)
pins: D+, D-, G GND, V VCC

## USB-mini
designator USB?
微型USB母座; 版权归属: 源创客; BOM名称: 微型USB母座; 学习资源: www.ooocke.com
footprint USB-MINI-A (MINI型USB，7.9*7.5*4.1mm)
footprint USB-micro_B (micro型USB ，5.7*7.8*2.5mm)
pins: 1 +5V, 2 D-, 3 D+, 4 ID, 5 GND

## VS1838B
designator HR?
红外接收头; 版权归属: 源创客; BOM名称: 红外接收头; 学习资源: www.ooocke.com
footprint VS1838B-A (一体红外接收头)
footprint VS1838B-B (一体红外接收头)
pins: 1 A "Anode", 2 K "Cathode", 3 E "Emitter"